# Altium footprint library Useful.PcbLib: 9 footprints
Each footprint in its own frame and in the unit in brackets; x right, y up, seen from the top. Pads: shape width x height; smd on the part's side, far side on the other; paste and mask are expansions set on the pad; w line width, h text height; cw(c..) or ccw(c..) is an arc to the next point about the centre after c.
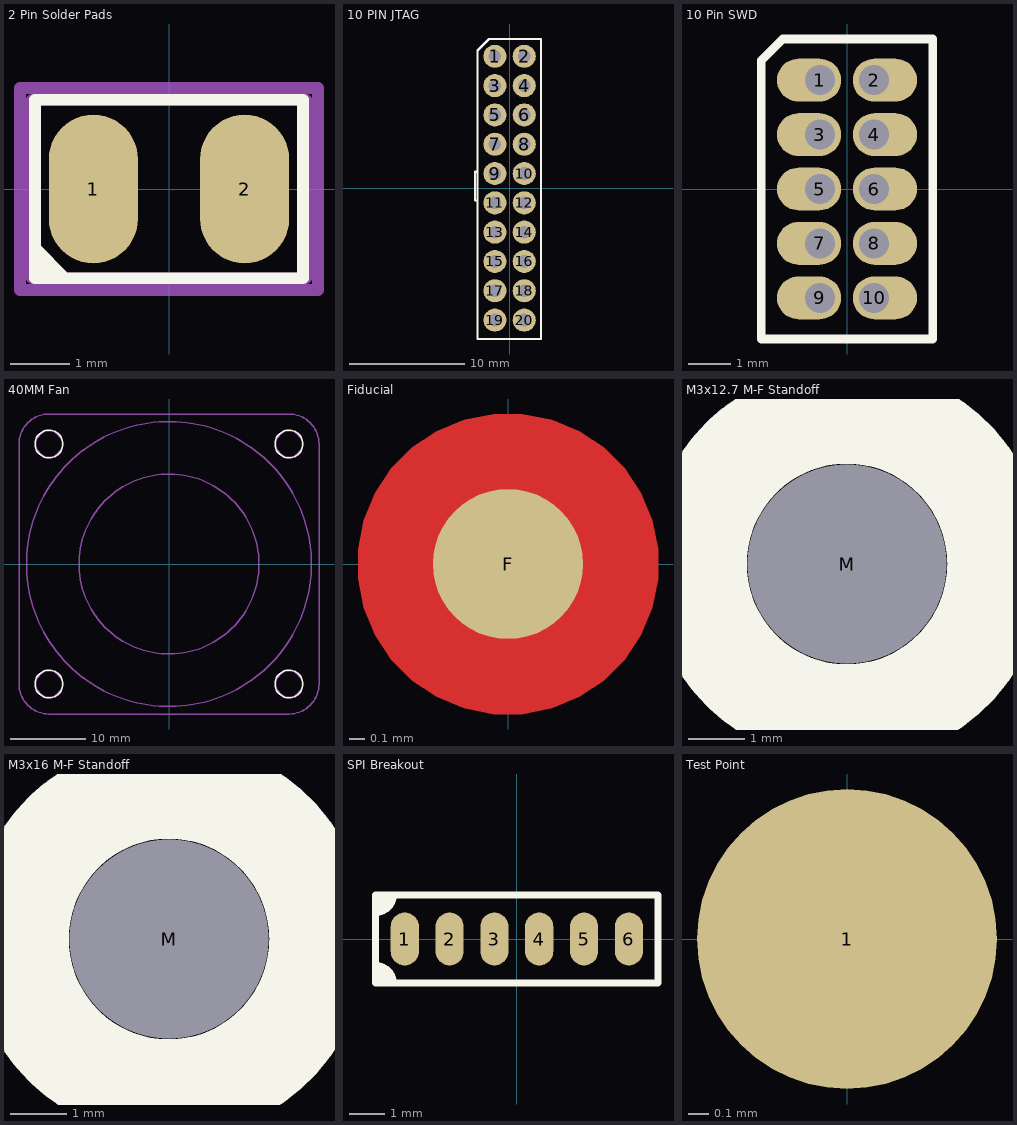
[diagram p0: the footprints below, top view; thin cyan lines are the x and y axes]

## 2 Pin Solder Pads [mm]
pads (2):
  oval 1.5x2.5 smd: 1(-1.27,0) 2(1.27,0)
Top Overlay:
  region: -2.25,-1.5 -2.25,-1 -1.75,-1.5
  lines w0.2: -2.25,-1 -1.75,-1.5 ; -2.25,-1.5 -2.25,1.5 2.25,1.5 2.25,-1.5 -2.25,-1.5
Mechanical 1:
  lines w0.2: -2.3,-1.5 -2.3,1.5 2.3,1.5 2.3,-1.5 -2.3,-1.5
Mechanical 15:
  lines w0.2: -2.5,-1.7 -2.5,1.7 2.5,1.7 2.5,-1.7 -2.5,-1.7

## 10 PIN JTAG [mm]
pads (20):
  round 2 hole 1.1: 1(-1.27,11.43) 2(1.27,11.43) 3(-1.27,8.89) 4(1.27,8.89) 5(-1.27,6.35) 6(1.27,6.35) 7(-1.27,3.81) 8(1.27,3.81) 9(-1.27,1.27) 10(1.27,1.27) 11(-1.27,-1.27) 12(1.27,-1.27) 13(-1.27,-3.81) 14(1.27,-3.81) 15(-1.27,-6.35) 16(1.27,-6.35) 17(-1.27,-8.89) 18(1.27,-8.89) 19(-1.27,-11.43) 20(1.27,-11.43)
Top Overlay:
  lines w0.2: -2.77,-1.07 -3,-1.07 -3,1.43 -2.77,1.43 ; -2.77,-13.07 -2.77,11.93 -1.77,12.93 2.73,12.93 2.73,-13.07 -2.77,-13.07

## 10 Pin SWD [mm]
pads (10):
  oval 1.5x1 hole 0.7 copper offset -0.25,0: 1(-0.635,2.54) 3(-0.635,1.27) 5(-0.635,0) 7(-0.635,-1.27) 9(-0.635,-2.54)
  oval 1.5x1 hole 0.7 copper offset 0.25,0: 2(0.635,2.54) 4(0.635,1.27) 6(0.635,0) 8(0.635,-1.27) 10(0.635,-2.54)
Top Overlay:
  lines w0.2: -2,-3.5 2,-3.5 2,3.5 -1.5,3.5 -2,3 -2,-3.5

## 40MM Fan [mm]
height 30
Top Overlay:
  circle w0.2: c-16,16 r1.85
  circle w0.2: c16,16 r1.85
  circle w0.2: c-16,-16 r1.85
  circle w0.2: c16,-16 r1.85
Mechanical 13:
  circle w0.2: c0,0 r19
  circle w0.2: c0,0 r12
  circle w0.2: c-16,16 r1.75
  circle w0.2: c-16,-16 r1.75
  circle w0.2: c16,-16 r1.75
  circle w0.2: c16,16 r1.75
  lines w0.2: -20,-16 ccw(c-16,-16) -16,-20 16,-20 ccw(c16,-16) 20,-16 20,16 ccw(c16,16) 16,20 -16,20 ccw(c-16,16) -20,16 -20,-16
3D body "AFB0412HHB-F00.step": height 27.79, standoff 12.79, extent -20,-20 20,20

## Fiducial [mm]
pads (1):
  round 1 smd paste-1 mask+0.5: F(0,0)
Top Layer:
  pour cut-out: -1,0 -1,0.098 -0.962,0.292 -0.886,0.474 -0.777,0.637 -0.637,0.777 -0.474,0.886 -0.292,0.962 -0.098,1 0,1 0.098,1 0.292,0.962 0.474,0.886 0.637,0.777 0.777,0.637 0.886,0.474 0.962,0.292 1,0.098 1,0 1,-0.098 0.962,-0.292 0.886,-0.474 0.777,-0.637 0.637,-0.777 0.474,-0.886 0.292,-0.962 0.098,-1 0,-1 -0.098,-1 -0.292,-0.962 -0.474,-0.886 -0.637,-0.777 -0.777,-0.637 -0.886,-0.474 -0.962,-0.292 -1,-0.098
  pour cut-out: 0,0

## M3x12.7 M-F Standoff [mm]
height 12.7
pads (1):
  round 1 hole 3.5 unplated: M(0,0)
Top Overlay:
  circle w1.75: c0,0 r2.64
Bottom Overlay:
  circle w1.75: c0,0 r2.64
3D body "NTS-12.step": height 12.71, standoff -6.34, extent -2.794,-3.226 2.794,3.226

## M3x16 M-F Standoff [mm]
height 16
pads (1):
  round 1 hole 3.5 unplated: M(0,0)
Top Overlay:
  circle w1.75: c0,0 r2.64
Bottom Overlay:
  circle w1.75: c0,0 r2.64
3D body "NTS-16.step": height 16, standoff -6, extent -2.794,-3.226 2.794,3.226

## SPI Breakout [mm] "Flash Connection Point"
pads (6):
  oval 0.8x1.5 smd: 1(-3.175,0) 2(-1.905,0) 3(-0.635,0) 4(0.635,0) 5(1.905,0) 6(3.175,0)
Top Overlay:
  region: -4,1.25 -4,0.75 -3.75,0.75 -3.5,1 -3.5,1.25
  region: -4,-0.75 -3.75,-0.75 -3.5,-1 -3.5,-1.25 -4,-1.25
  lines w0.2: -4,-0.75 cw(c-4,-1.25) -3.5,-1.25 ; -4,0.75 ccw(c-4,1.25) -3.5,1.25 ; -4,-1.25 4,-1.25 4,1.25 -4,1.25 -4,-1.25

## Test Point [mm]
pads (1):
  round 1.5 smd: 1(0,0)